# EAGLE library part RT9466 (library BatteryCharger)
Charger IC Lithium Ion/Polymer 24-WQFN (4x4) datasheet <https://www.digikey.in/product-detail/en/richtek-usa-inc/RT9466GQW/RT9466GQWCT-ND/6676833>
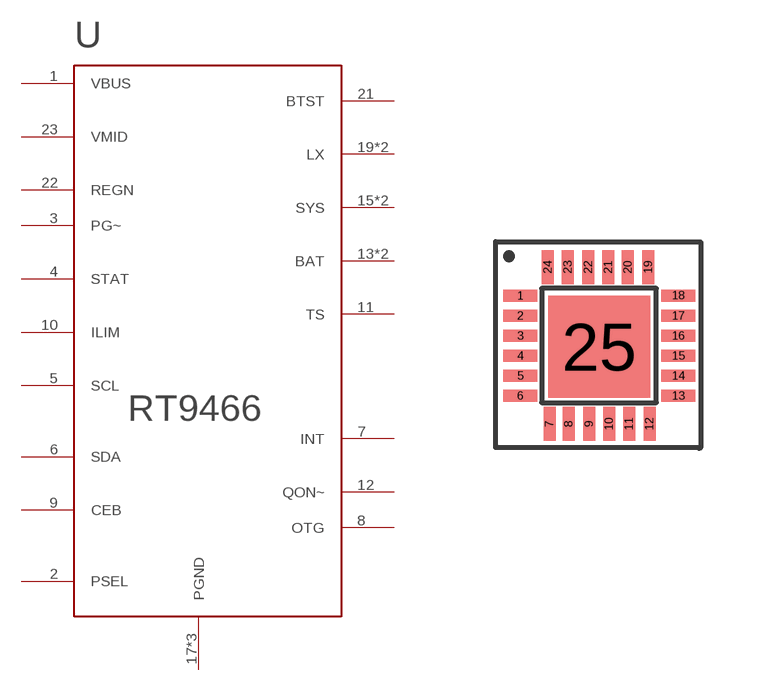
[diagram p0: symbol with the pads of V/W/U/XQFN4*4-24; footprint V/W/U/XQFN4*4-24]

Designator prefix -

## RT9466 (MANUFACTURER: Richtek USA Inc.; P: 310; PARTNAME: RT9466GQW)  [V/W/U/XQFN4*4-24]
1  VBUS
2  PSEL
3  PG~
4  STAT
5  SCL
6  SDA
7  INT
8  OTG
9  CEB
10  ILIM
11  TS
12  QON~
13  BAT
14  BAT
15  SYS
16  SYS
17  PGND
18  PGND
19  LX
20  LX
21  BTST
22  REGN
23  VMID
25  PGND

## Footprint V/W/U/XQFN4*4-24 (pad centres in mm)
smd 0.85 x 0.3: 1 0,0; 2 0,-0.5; 3 0,-1; 4 0,-1.5; 5 0,-2; 6 0,-2.5; 13 3.95,-2.5; 14 3.95,-2; 15 3.95,-1.5; 16 3.95,-1; 17 3.95,-0.5; 18 3.95,0.01
smd 0.3 x 0.85: 7 0.73,-3.2; 8 1.21,-3.2; 9 1.72,-3.2; 10 2.22,-3.2; 11 2.72,-3.2; 12 3.23,-3.2; 19 3.2,0.72; 20 2.69,0.72; 21 2.2,0.72; 22 1.7,0.72; 23 1.19,0.72; 24 0.69,0.72
smd 2.55 x 2.55: 25 1.97,-1.27